# Altium footprint library QFN50P400X400X55-28L.PcbLib: 1 footprints
Each footprint in its own frame and in the unit in brackets; x right, y up, seen from the top. Pads: shape width x height; smd on the part's side, far side on the other; paste and mask are expansions set on the pad; w line width, h text height; cw(c..) or ccw(c..) is an arc to the next point about the centre after c.
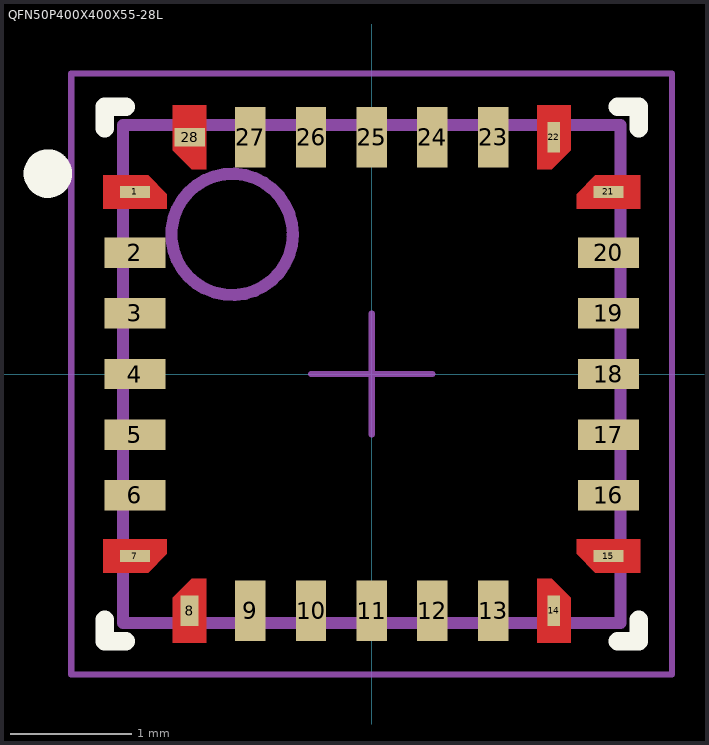
[diagram p0: the footprint, top view; thin cyan lines are the x and y axes]

## QFN50P400X400X55-28L [mm] "QFN, 28-Leads, Body 4.00x4.00mm, Pitch 0.50mm, Thermal Pad 0.00x0.00mm, IPC High Density"
height 0.55
pads (28):
  rect 0.25x0.1 smd: 1(-1.95,1.5) 7(-1.95,-1.5) 15(1.95,-1.5) 21(1.95,1.5)
  rect 0.5x0.25 smd: 2(-1.95,1) 3(-1.95,0.5) 4(-1.95,0) 5(-1.95,-0.5) 6(-1.95,-1) 16(1.95,-1) 17(1.95,-0.5) 18(1.95,0) 19(1.95,0.5) 20(1.95,1)
  rect 0.15x0.25 smd: 8(-1.5,-1.95)
  rect 0.25x0.5 smd: 9(-1,-1.95) 10(-0.5,-1.95) 11(0,-1.95) 12(0.5,-1.95) 13(1,-1.95) 23(1,1.95) 24(0.5,1.95) 25(0,1.95) 26(-0.5,1.95) 27(-1,1.95)
  rect 0.1x0.25 smd: 14(1.5,-1.95) 22(1.5,1.95)
  rect 0.25x0.15 smd: 28(-1.5,1.95)
Top Layer:
  region: 1.638,-2.213 1.638,-1.843 1.482,-1.687 1.362,-1.687 1.362,-2.212 1.363,-2.213
  region: -2.213,-1.638 -1.843,-1.638 -1.687,-1.482 -1.687,-1.362 -2.212,-1.362 -2.213,-1.363
  region: -1.638,2.213 -1.638,1.843 -1.482,1.687 -1.362,1.687 -1.362,2.212 -1.363,2.213
  region: 2.213,1.638 1.843,1.638 1.687,1.482 1.687,1.362 2.212,1.362 2.213,1.363
  region: -2.213,1.638 -1.843,1.638 -1.687,1.482 -1.687,1.362 -2.212,1.362 -2.213,1.363
  region: 1.638,2.213 1.638,1.843 1.482,1.687 1.362,1.687 1.362,2.212 1.363,2.213
  region: 2.213,-1.638 1.843,-1.638 1.687,-1.482 1.687,-1.362 2.212,-1.362 2.213,-1.363
  region: -1.638,-2.213 -1.638,-1.843 -1.482,-1.687 -1.362,-1.687 -1.362,-2.212 -1.363,-2.213
Top Overlay:
  circle w0.2: c-2.667,1.651 r0.1
  lines w0.152: -2.2,-2.025 -2.2,-2.2 -2.025,-2.2 ; -2.2,2.025 -2.2,2.2 -2.025,2.2 ; 2.025,-2.2 2.2,-2.2 2.2,-2.025 ; 2.025,2.2 2.2,2.2 2.2,2.025
Mechanical 13:
  circle w0.1: c-1.15,1.15 r0.5
  lines w0.1: -2.05,-2.05 2.05,-2.05 2.05,2.05 -2.05,2.05 -2.05,-2.05
Mechanical 15:
  lines w0.05: -2.478,2.475 2.475,2.475 ; -2.475,-2.475 -2.475,2.475 ; -2.472,-2.475 2.475,-2.475 2.475,2.472 ; -0.5,0 0.5,0 ; 0,-0.5 0,0.5
3D body: height 0.55, standoff 0, extent -2.1,-2.1 2.1,2.1